# EAGLE library part TPS54260 (library myLib)
TPS54260 3.5V to 60V 2.5A step down converter
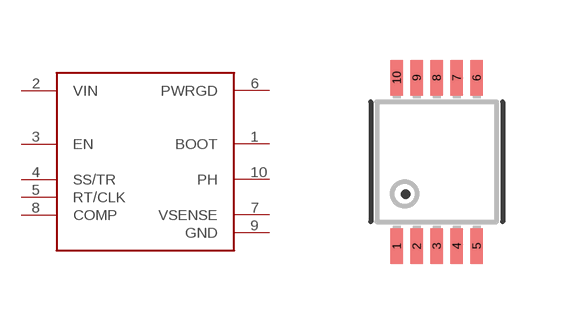
[diagram p9: symbol with the pads of MSOP-10; footprint MSOP-10]

Designator prefix -

## TPS54260  [MSOP-10]
1  BOOT
2  VIN
3  EN
4  SS/TR
5  RT/CLK
6  PWRGD
7  VSENSE
8  COMP
9  GND
10  PH

## Footprint MSOP-10 (pad centres in mm)
smd 0.305 x 0.889: 1 -1,-2.11; 2 -0.5,-2.11; 3 0,-2.11; 4 0.5,-2.11; 5 1,-2.11; 6 1,2.11; 7 0.5,2.11; 8 0,2.11; 9 -0.5,2.11; 10 -1,2.11